# Altium schematic symbol library USB4110-GF-A.SchLib: 1 symbol
Pins are listed as number, name and electrical type; pins without a type are passive.

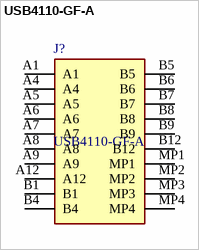
[diagram p0: symbol USB4110-GF-A]

## USB4110-GF-A
designator J?
CONN USB 2.0 TYPE-C R/A SMT; Manufacturer_Name: GCT (GLOBAL CONNECTOR TECHNOLOGY); Geometry.Height: 3.26mm; Mouser Part Number: 640-USB4110-GF-A; Mouser Price/Stock: https://www.mouser.co.uk/ProductDetail/GCT/USB4110-GF-A?qs=KUoIvG%2F9IlYiZvIXQjyJeA%3D%3D; Manufacturer_Part_Number: USB4110-GF-A; Datasheet Link: https://gct.co/files/drawings/usb4110.pdf
footprint USB4110GFA
pins: A1, A4, A5, A6, A7, A8, A9, A12, B1, B4, B5, B6, B7, B8, B9, B12, MP1, MP2, MP3, MP4